# EAGLE library part 618026330923 (library 632723100011_Eagle_WR-USB_rev19b)
WR-DSUB Female High Density Angled PCB Connector with Hex Screw 26 Pins=>Code : Con_I-O_DSUB_PCB_Female_w-screw_618026330923 <https://katalog.we-online.com/media/images/v2/o33093v209%20Family_WR-DSUB_6180xx330923.jpg> Details see: https://katalog.we-online.com/en/em/DSUB_FEMALE_HIGH_DENSITY_ANGLED_PCB_CONNECTOR_W_HEX_SCREW_6180XX330923 Updated by Ella Wu 2019-03-13 2019 (C) Würth Elektronik
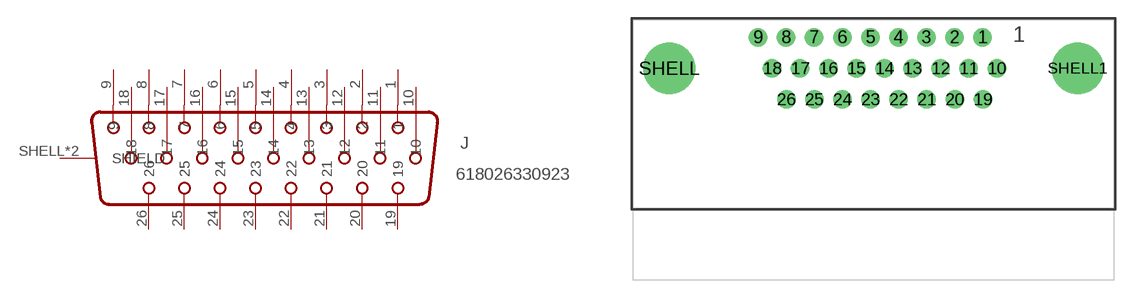
[diagram p57: symbol with the pads of 618026330923; footprint 618026330923]

Designator prefix J

## 618026330923 (WE-NUMBER: 618026330923)  [618026330923]
1  1
2  2
3  3
4  4
5  5
6  6
7  7
8  8
9  9
10  10
11  11
12  12
13  13
14  14
15  15
16  16
17  17
18  18
19  19
20  20
21  21
22  22
23  23
24  24
25  25
26  26
SHELL  SHIELD
SHELL1  SHIELD

## Footprint 618026330923 (pad centres in mm)
WR-DSUB Female High Density Angled PCB Connector with Hex Screw, 26 Pins
drill 1: 1 8.906,2.54; 2 6.616,2.54; 3 4.326,2.54; 4 2.036,2.54; 5 -0.254,2.54; 6 -2.544,2.54; 7 -4.834,2.54; 8 -7.124,2.54; 9 -9.414,2.54; 10 10.056,0; 11 7.766,0; 12 5.476,0; 13 3.186,0; 14 0.896,0; 15 -1.394,0; 16 -3.684,0; 17 -5.974,0; 18 -8.264,0; 19 8.916,-2.54; 20 6.626,-2.54; 21 4.336,-2.54; 22 2.046,-2.54; 23 -0.244,-2.54; 24 -2.534,-2.54; 25 -4.824,-2.54; 26 -7.114,-2.54
drill 3.2: SHELL -16.66,0; SHELL1 16.66,0